# Altium footprint library SparkFun-Connectors.PCBLIB: 386 footprints (part 17 of 25)
Each footprint in its own frame and in the unit in brackets; x right, y up, seen from the top. Pads: shape width x height; smd on the part's side, far side on the other; paste and mask are expansions set on the pad; w line width, h text height; cw(c..) or ccw(c..) is an arc to the next point about the centre after c.
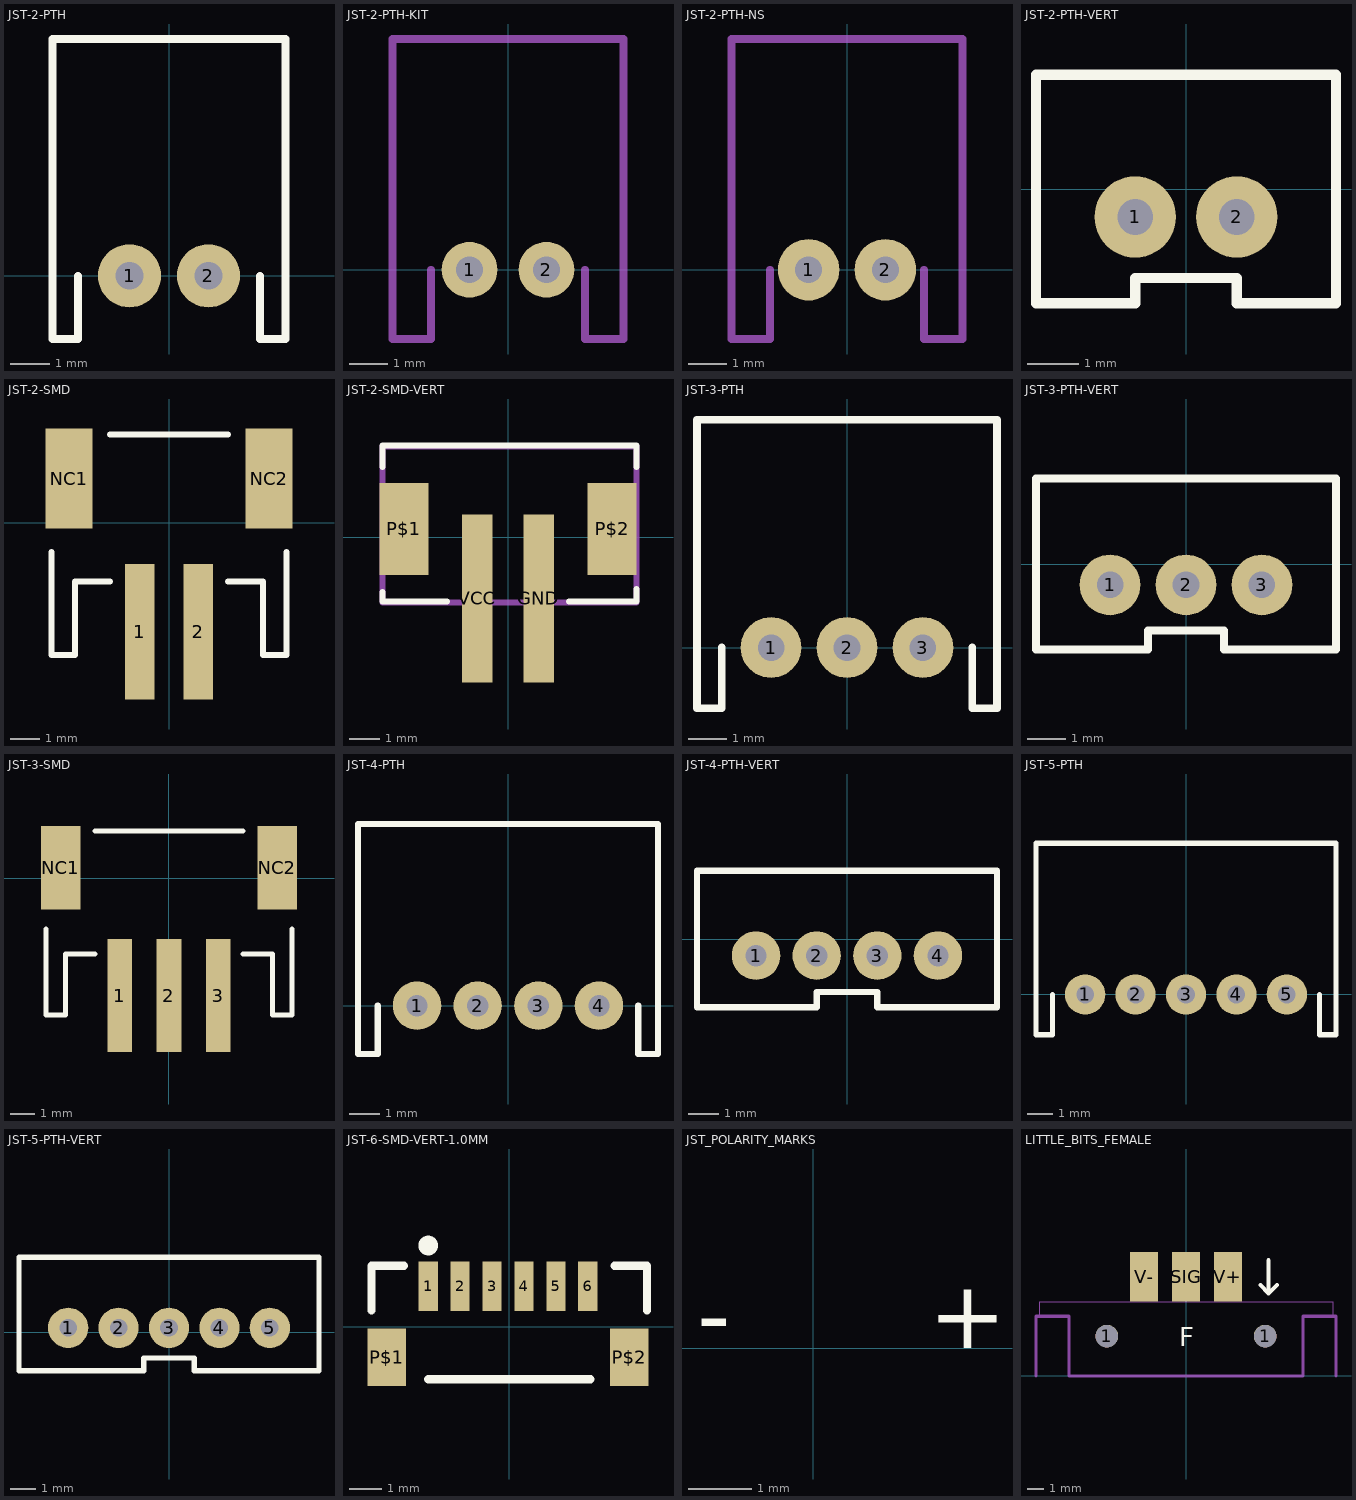
[diagram p16: the footprints below, top view; thin cyan lines are the x and y axes]

## JST-2-PTH [mm]
pads (2):
  round 1.6 hole 0.7: 1(-1,0) 2(1,0)
Top Overlay:
  lines w0.203: -2.3,0 -2.3,-1.6 -2.95,-1.6 -2.95,6 2.95,6 2.95,-1.6 2.3,-1.6 2.3,0
Mechanical 16:
  text "+" at 0.6,0.7 h1.97
  text "-" at -1.4,0.7 h1.97

## JST-2-PTH-KIT [mil]
pads (2):
  round 57 hole 27.56: 1(-39.37,0) 2(39.37,0)
Top Solder:
  region: 0,0 10,0 10,10 0,10
  region: 0,0 10,0 10,10 0,10
Bottom Solder:
  region: 0,0 10,0 10,10 0,10
  region: 0,0 10,0 10,10 0,10
Mechanical 16:
  lines w8: -78.74,0 -78.74,-70.87 -118.11,-70.87 -118.11,236.22 118.11,236.22 118.11,-70.87 78.74,-70.87 78.74,0
  text "+" at 23.62,27.56 h77.5
  text "-" at -55.12,27.56 h77.5

## JST-2-PTH-NS [mm]
pads (2):
  round 1.6 hole 0.7: 1(-1,0) 2(1,0)
Mechanical 16:
  lines w0.203: -2,0 -2,-1.8 -3,-1.8 -3,6 3,6 3,-1.8 2,-1.8 2,0
  text "+" at 0.6,0.7 h1.97
  text "-" at -1.4,0.7 h1.97

## JST-2-PTH-VERT [mm]
pads (2):
  round 1.6 hole 0.7: 1(-1,-0.55) 2(1,-0.55)
Top Overlay:
  lines w0.203: -2.95,-2.25 -2.95,2.25 2.95,2.25 2.95,-2.25 1,-2.25 1,-1.75 -1,-1.75 -1,-2.25 -2.95,-2.25
Mechanical 16:
  text "+" at 0.616,0.75 h1.97
  text "-" at -1.384,0.75 h1.97

## JST-2-SMD [mm]
pads (4):
  rect 1x4.6 smd: 1(-1,-3.7) 2(1,-3.7)
  rect 1.6x3.4 smd: NC1(-3.4,1.5) NC2(3.4,1.5)
Top Overlay:
  lines w0.203: -4,-1 -4,-4.5 -3.2,-4.5 -3.2,-2 -2,-2 ; -2,3 2,3 ; 2,-2 3.2,-2 3.2,-4.5 4,-4.5 4,-1

## JST-2-SMD-VERT [mm]
pads (4):
  rect 1x5.5 smd: GND(1,-2) VCC(-1,-2)
  rect 1.6x3 smd: P$1(-3.4,0.27) P$2(3.4,0.27)
Top Overlay:
  lines w0.203: -4.1,-1.8 -4.1,-2.1 -2,-2.1 ; -4.1,2.3 -4.1,3 4.2,3 4.2,2.3 ; 2,-2.1 4.2,-2.1 4.2,-1.7
Mechanical 16:
  lines w0.203: -4.1,-2.13 4.2,-2.13 4.2,2.97 -4.1,2.97 -4.1,-2.13

## JST-3-PTH [mm]
pads (3):
  round 1.6 hole 0.7: 1(-2,0) 2(0,0) 3(2,0)
Top Overlay:
  lines w0.203: -3.3,0 -3.3,-1.6 -3.95,-1.6 -3.95,6 3.95,6 3.95,-1.6 3.3,-1.6 3.3,0
Mechanical 16:
  text "+" at -2.4,0.67 h1.97
  text "-" at -0.4,0.67 h1.97
  text "S" at 1.7,0.87 h1.24

## JST-3-PTH-VERT [mm]
pads (3):
  round 1.6 hole 0.7: 1(-2,-0.55) 2(0,-0.55) 3(2,-0.55)
Top Overlay:
  lines w0.203: -3.95,-2.25 -3.95,2.25 3.95,2.25 3.95,-2.25 1,-2.25 1,-1.75 -1,-1.75 -1,-2.25 -3.95,-2.25
Mechanical 16:
  text "+" at -2.4,0.75 h1.97
  text "-" at -0.4,0.75 h1.97
  text "S" at 1.7,0.95 h1.24

## JST-3-SMD [mm]
pads (5):
  rect 1x4.6 smd: 1(-1.99,-4.77) 2(0.01,-4.77) 3(2.01,-4.77)
  rect 1.6x3.4 smd: NC1(-4.39,0.43) NC2(4.41,0.43)
Top Overlay:
  lines w0.203: -4.99,-2.07 -4.99,-5.57 -4.19,-5.57 -4.19,-3.07 -2.99,-3.07 ; -2.99,1.93 3.01,1.93 ; 3.01,-3.07 4.21,-3.07 4.21,-5.57 5.01,-5.57 5.01,-2.07

## JST-4-PTH [mm]
pads (4):
  round 1.6 hole 0.7: 1(-3,0) 2(-1,0) 3(1,0) 4(3,0)
Top Overlay:
  lines w0.203: -4.3,0 -4.3,-1.6 -4.95,-1.6 -4.95,6 4.95,6 4.95,-1.6 4.3,-1.6 4.3,0
Mechanical 16:
  text "+" at -3.4,0.7 h1.97
  text "-" at -1.4,0.7 h1.97
  text "S" at 0.7,0.9 h1.24
  text "S" at 2.7,0.9 h1.24

## JST-4-PTH-VERT [mm]
pads (4):
  round 1.6 hole 0.7: 1(-3,-0.55) 2(-1,-0.55) 3(1,-0.55) 4(3,-0.55)
Top Overlay:
  lines w0.203: -4.95,-2.25 -4.95,2.25 4.95,2.25 4.95,-2.25 1,-2.25 1,-1.75 -1,-1.75 -1,-2.25 -4.95,-2.25
Mechanical 16:
  text "+" at -1.4,0.75 h1.97
  text "-" at 0.6,0.75 h1.97
  text "Y" at 2.7,0.95 h1.24
  text "B" at -3.3,0.95 h1.24

## JST-5-PTH [mm]
pads (5):
  round 1.6 hole 0.7: 1(-4,0) 2(-2,0) 3(0,0) 4(2,0) 5(4,0)
Top Overlay:
  lines w0.203: -5.3,0 -5.3,-1.6 -5.95,-1.6 -5.95,6 5.95,6 5.95,-1.6 5.3,-1.6 5.3,0

## JST-5-PTH-VERT [mm]
pads (5):
  round 1.6 hole 0.7: 1(-4,0.18) 2(-2,0.18) 3(0,0.18) 4(2,0.18) 5(4,0.18)
Top Overlay:
  lines w0.203: -5.95,-1.52 -5.95,2.98 5.95,2.98 5.95,-1.52 1,-1.52 1,-1.02 -1,-1.02 -1,-1.52 -5.95,-1.52

## JST-6-SMD-VERT-1.0MM [mm]
pads (8):
  rect 0.6x1.55 smd: 1(-2.54,1.27) 2(-1.54,1.27) 3(-0.54,1.27) 4(0.46,1.27) 5(1.46,1.27) 6(2.46,1.27)
  rect 1.2x1.8 smd: P$1(-3.84,-0.955) P$2(3.76,-0.955)
Top Overlay:
  circle w0.406: c-2.54,2.54 r0.105
  lines w0.254: -4.318,0.508 -4.318,1.905 -3.302,1.905 ; -2.54,-1.651 2.54,-1.651 ; 3.302,1.905 4.318,1.905 4.318,0.508

## JST_POLARITY_MARKS [mil]
Top Overlay:
  text "+" at 72.5,0 h42.5
  text "-" at -72.5,0 h42.5
Mechanical 16:
  text "+" at 72.5,0 h42.5
  text "-" at -72.5,0 h42.5

## LITTLE_BITS_FEMALE [mm]
pads (5):
  round 1.37 hole 1.37: 1(-4.79,2.41) 1(4.79,2.41)
  rect 1.7x3 smd: SIG(0,6) V+(2.54,6) V-(-2.54,6)
Top Overlay:
  lines w0.25: 4.5,5.5 5,5 ; 5,7 5,5 ; 5.5,5.5 5,5
  text "F" at -0.4,1.4 h1.97
Mechanical 1:
  lines w0.203: -9.075,0 -9.075,3.61 -7.075,3.61 -7.075,0 7.075,0 7.075,3.61 9.075,3.61 9.075,0
Mechanical 16:
  lines w0.001: -8.875,3.61 -8.875,4.5 8.875,4.5 8.875,3.61